# Altium integrated library 533981071.IntLib: 1 symbol
Pins are listed as number, name and electrical type; pins without a type are passive.

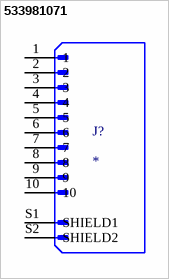
[diagram p0: symbol 533981071]

## 533981071
designator J?
MP: 533981071; Package: None; Availability: Unavailable; Price: None; Value: *
footprint MOLEX_533981071
pins: 1, 2, 3, 4, 5, 6, 7, 8, 9, 10, S1 SHIELD1, S2 SHIELD2